# Altium schematic symbol library SIM_Sockets.SCHLIB: 15 symbols
Pins are listed as number, name and electrical type; pins without a type are passive.

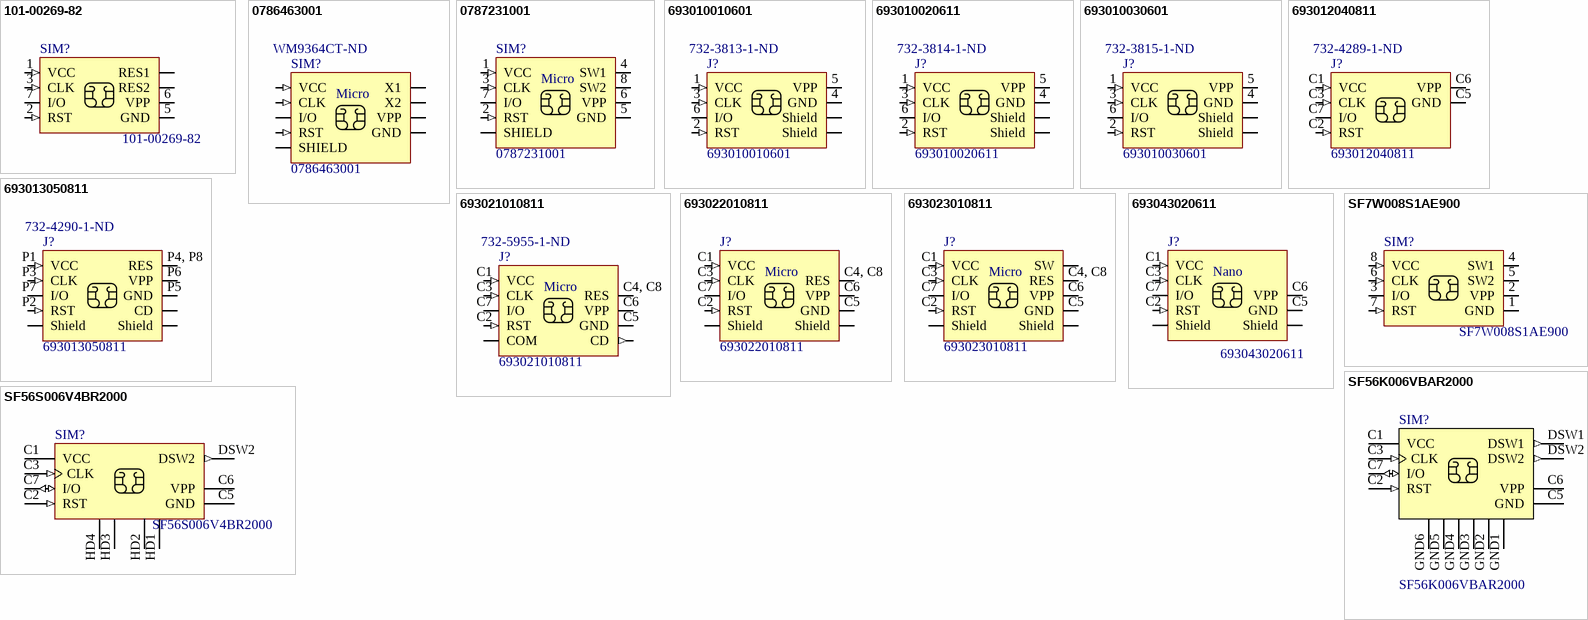
[diagram p0: symbols 101-00269-82 to SF56S006V4BR2000]

## 101-00269-82
designator SIM?
CONN SIM CARD PUSH-PUSH R/A SMD; Manuf1: Amphenol Commercial Products; Populated: Yes; Value: 101-00269-82; Manuf1Partnumber: 101-00269-82; ROHS: Yes; LifeCycle: Checked; Supplier 1: Digi-Key; Supplier Part Number 1: 101-00269-82-1-ND
footprint 101-00269-82
pins: 1 VCC (in), 2 RST (in), 3 CLK (in), 5 GND (power), 6 VPP, 7 I/O (io), RES1, RES2

## 0786463001
designator SIM?  Supplier Part Number 1: WM9364CT-ND
CONN MICRO SIM CARD PUSH-PULL; Manufacturer: Molex, LLC; Manuf1: Molex LCC; Number of Positions: 6; Insertion, Removal Method: Push In, Pull Out; Populated: Yes; Manufacturer Part Number: 0786463001; RoHS: Yes; Packaging: Cut Tape (CT); Card Type: Micro SIM; Mounting Type: Surface Mount, Right Angle; Height Above Board: 0.057" (1.45mm); Mounting Feature: Normal, Standard - Top; Contact Finish: Gold; Contact Finish Thickness: 15µin (0.38µm); ComponentLink1URL: http://www.molex.com/pdm_docs/sd/786463001_sd.pdf; ComponentLink1Description: http://www.molex.com/pdm_docs/sd/786463001_sd.pdf; Value: 0786463001; LifeCycle: Checked; Manuf1Partnumber: 0786463001; Supplier 1: Digi-Key
footprint 0786463001 (Conn Micro SIM Card SKT 6 POS 2.54mm Solder RA SMD Embossed T/R 0.5A/Contact)
pins: C1 VCC (in), C2 RST (in), C3 CLK (in), C5 GND (power), C6 VPP, C7 I/O (io), GND SHIELD, X1, X2
text: Micro

## 0787231001
designator SIM?
CONN MICRO SIM CARD PUSH-PULL; Manuf1: Molex LCC; Populated: Yes; Manuf1Partnumber: 0787231001; Value: 0787231001; ROHS: Yes; LifeCycle: Checked; Supplier 1: Digi-Key; Supplier Part Number 1: WM9259CT-ND
footprint 0787231001
pins: 1 VCC (in), 2 RST (in), 3 CLK (in), 4 SW1, 5 GND (power), 6 VPP, 7 I/O (io), 8 SW2, GND SHIELD
text: Micro

## 693010010601
designator J?  Supplier Part Number 1: 732-3813-1-ND
WR-CRD Mini SIM_Standard Header; Manufacturer: Würth Elektronik eiSos GmbH; ComponentLink1 Description: Manufacturer; ComponentLink2 Description: Datasheet; NoPins: 6; Populated: Yes; ComponentLink1URL: http://www.we-online.de; ComponentLink2URL: http://katalog.we-online.de/em/datasheet/693010010601.pdf; partNo: 693010010601; LifeCycle: Checked; Manuf1: Würth Elektronik eiSos GmbH; Manuf1Partnumber: 693010010601; RoHS: Yes; Value: 693010010601; Supplier 1: Digi-Key
footprint 693010010601
pins: 1 VCC (in), 2 RST (in), 3 CLK (in), 4 GND, 5 VPP, 6 I/O (io), Z1 Shield, Z2 Shield

## 693010020611
designator J?  Supplier Part Number 1: 732-3814-1-ND
WR-CRD Mini SIM; Manufacturer: Würth Elektronik eiSos GmbH; ComponentLink1 Description: Manufacturer; ComponentLink2 Description: Datasheet; NoPins: 6; Populated: Yes; ComponentLink1URL: http://www.we-online.de; ComponentLink2URL: http://katalog.we-online.de/em/datasheet/693010020611.pdf; partNo: 693010020611; LifeCycle: Checked; Manuf1: Würth Elektronik eiSos GmbH; Manuf1Partnumber: 693010020611; RoHS: Yes; Value: 693010020611; Supplier 1: Digi-Key
footprint 693010020611
pins: 1 VCC (in), 2 RST (in), 3 CLK (in), 4 GND, 5 VPP, 6 I/O (io), Z1 Shield, Z2 Shield

## 693010030601
designator J?  Supplier Part Number 1: 732-3815-1-ND
WR-CRD Mini SIM; Manufacturer: Würth Elektronik eiSos GmbH; ComponentLink1 Description: Manufacturer; ComponentLink2 Description: Datasheet; NoPins: 6; Populated: Yes; ComponentLink1URL: http://www.we-online.de; ComponentLink2URL: http://katalog.we-online.de/em/datasheet/693010030601.pdf; partNo: 693010030601; LifeCycle: Checked; Manuf1: Würth Elektronik eiSos GmbH; Manuf1Partnumber: 693010030601; RoHS: Yes; Value: 693010030601; Supplier 1: Digi-Key
footprint 693010030601
pins: 1 VCC (in), 2 RST (in), 3 CLK (in), 4 GND, 5 VPP, 6 I/O (io), Z1 Shield, Z2 Shield

## 693012040811
designator J?  Supplier Part Number 1: 732-4289-1-ND
WR-CRD mini SIM_Hinge type_6 pins; Manufacturer: Würth Elektronik eiSos GmbH; ComponentLink1 Description: Manufacturer; ComponentLink2 Description: Datasheet; NoPins: 6; Populated: Yes; ComponentLink1URL: http://www.we-online.de; ComponentLink2URL: http://katalog.we-online.de/em/datasheet/693012040811.pdf; partNo: 693012040811; LifeCycle: Checked; Manuf1: Würth Elektronik eiSos GmbH; Manuf1Partnumber: 693012040811; RoHS: Yes; Value: 693012040811; Supplier 1: Digi-Key
footprint 693012040811
pins: C1 VCC (in), C2 RST (in), C3 CLK (in), C5 GND, C6 VPP, C7 I/O (io)

## 693013050811
designator J?  Supplier Part Number 1: 732-4290-1-ND
WR-CRD Mega SIM_Push and Push_8 pins; Manufacturer: Würth Elektronik eiSos GmbH; ComponentLink1 Description: Manufacturer; ComponentLink2 Description: Datasheet; NoPins: 9; Populated: Yes; ComponentLink1URL: http://www.we-online.de; ComponentLink2URL: http://katalog.we-online.de/em/datasheet/693013050811.pdf; partNo: 693013050811; LifeCycle: Checked; Manuf1: Würth Elektronik eiSos GmbH; Manuf1Partnumber: 693013050811; RoHS: Yes; Value: 693013050811; Supplier 1: Digi-Key
footprint 693013050811
pins: CD, P1 VCC (in), P2 RST (in), P3 CLK (in), P4, P8 RES, P5 GND, P6 VPP, P7 I/O (io), Z1 Shield, Z2 Shield

## 693021010811
designator J?  Supplier Part Number 1: 732-5955-1-ND
WR-CRD Micro SIM_Push and Push_8 pins; Manufacturer: Würth Elektronik eiSos GmbH; ComponentLink1 Description: Manufacturer; ComponentLink2 Description: Datasheet; NoPins: 10; Populated: Yes; ComponentLink1URL: http://www.we-online.de; ComponentLink2URL: http://katalog.we-online.de/em/datasheet/693021010811.pdf; partNo: 693021010811; LifeCycle: Checked; Manuf1: Würth Elektronik eiSos GmbH; Manuf1Partnumber: 693021010811; RoHS: Yes; Value: 693021010811; Supplier 1: Digi-Key
footprint 693021010811
pins: C1 VCC (in), C2 RST (in), C3 CLK (in), C4, C8 RES, C5 GND, C6 VPP, C7 I/O (io), CD (out), COM
text: Micro

## 693022010811
designator J?
WR-CRD Micro SIM_Hinge_8 pins; Manufacturer: Würth Elektronik eiSos GmbH; ComponentLink1 Description: Manufacturer; ComponentLink2 Description: Datasheet; NoPins: 8; Populated: Yes; ComponentLink1URL: http://www.we-online.de; ComponentLink2URL: http://katalog.we-online.de/em/datasheet/693022010811.pdf; partNo: 693022010811; LifeCycle: Checked; Manuf1: Würth Elektronik eiSos GmbH; Manuf1Partnumber: 693022010811; RoHS: Yes; Value: 693022010811; Supplier 1: Digi-Key; Supplier Part Number 1: 732-5957-1-ND
footprint 693022010811
pins: C1 VCC (in), C2 RST (in), C3 CLK (in), C4, C8 RES, C5 GND, C6 VPP, C7 I/O (io), Z1 Shield, Z2 Shield
text: Micro

## 693023010811
designator J?
WR-CRD Micro SIM_Push and Pull_8 pins; Manufacturer: Würth Elektronik eiSos GmbH; ComponentLink1 Description: Manufacturer; ComponentLink2 Description: Datasheet; NoPins: 9; Populated: Yes; ComponentLink1URL: http://www.we-online.de; ComponentLink2URL: http://katalog.we-online.de/em/datasheet/693023010811.pdf; partNo: 693023010811; LifeCycle: Checked; Manuf1: Würth Elektronik eiSos GmbH; Manuf1Partnumber: 693023010811; RoHS: Yes; Value: 693023010811; Supplier 1: Digi-Key; Supplier Part Number 1: 732-5956-1-ND
footprint 693023010811
pins: C1 VCC (in), C2 RST (in), C3 CLK (in), C4, C8 RES, C5 GND, C6 VPP, C7 I/O (io), SW, Z1 Shield, Z2 Shield
text: Micro

## 693043020611
designator J?
WR-CRD Nano SIM_Push and Pull_6 pins; Manufacturer: Würth Elektronik eiSos GmbH; ComponentLink1 Description: Manufacturer; ComponentLink2 Description: Datasheet; NoPins: 6; Populated: Yes; ComponentLink1URL: http://www.we-online.de; ComponentLink2URL: http://katalog.we-online.de/em/datasheet/693043020611.pdf; partNo: 693043020611; LifeCycle: Checked; Manuf1: Würth Elektronik eiSos GmbH; Manuf1Partnumber: 693043020611; RoHS: Yes; Value: 693043020611; Supplier 1: Digi-Key; Supplier Part Number 1: 732-5954-1-ND
footprint 693043020611
pins: C1 VCC (in), C2 RST (in), C3 CLK (in), C5 GND, C6 VPP, C7 I/O (io), Z1 Shield, Z2 Shield
text: Nano

## SF7W008S1AE900
designator SIM?
CONN SIM CARD HINGED TYPE R/A; Manuf1: JAE Electronics; Populated: Yes; Value: SF7W008S1AE900; Manuf1Partnumber: SF7W008S1AE900; ROHS: Yes; LifeCycle: Checked; Supplier 1: Digi-Key; Supplier Part Number 1: 670-2337-1-ND
footprint SF7W008S1AE900
pins: 1 GND, 2 VPP, 3 I/O (io), 4 SW1, 5 SW2, 6 CLK (in), 7 RST (in), 8 VCC (in)

## SF56K006VBAR2000
designator SIM?
Micro Sim Card Conn Push-push Type; Manufacturer: JAE Electronics; Connector Type: Connector; Frequency: 32MHz; Frequency Stability: 10ppm; Load Capacitance: 7pF; ESR (Equivalent Series Resistance): 50R; Supplier 1: Digi-Key; Manufacturer Part Number: SF56K006VBAR2000; RoHS: No; Category: Memory Connectors; Stock 1: 15244; Pricing 1: 1=1,30000, 10=1,10200, 25=1,05720, 50=1,03460, 100=0,98960, 250=0,89964, 500=0,80968, 1000=0,71971 (USD); Mount: Surface Mount; Case/Package: SMD/SMT; Contact Plating: Gold; Min Operating Temperature: -20°C; Max Operating Temperature: 70°C; Packaging: Tape and Reel; Frequency Tolerance: 10ppm; ComponentLink1URL: http://www.jae.com/z-en/pdf_download_exec.cfm?param=MB-0322-1E_SF56K.pdf&src-supplier=Digi-Key; ComponentLink1Description: http://www.jae.com/z-en/pdf_download_exec.cfm?param=MB-0322-1E_SF56K.pdf&src-supplier=Digi-Key; ComponentLink2URL: http://www.jae.com/z-en/pdf_download_exec.cfm?param=SJ116250.pdf&src-supplier=Digi-Key; ComponentLink2Description: http://www.jae.com/z-en/pdf_download_exec.cfm?param=SJ116250.pdf&src-supplier=Digi-Key; Supplier Part Number 1: 670-2981-1-ND
footprint JAE_SF56K006VBAR2000
pins: C1 VCC (power), C2 RST (in), C3 CLK (in), C5 GND (power), C6 VPP (power), C7 I/O (io), DSW1 (out), DSW2 (out), GND1 SHIELD (power), GND2 SHIELD (power), GND3 SHIELD (power), GND4 SHIELD (power), GND5 SHIELD (power), GND6 SHIELD (power)

## SF56S006V4BR2000
designator SIM?
8 (6 + 2) Position Card Connector Micro SIM Surface Mount, Right Angle Gold; Manufacturer: JAE Electronics; Supplier 1: Digi-Key; Manufacturer Part Number: SF56S006V4BR2000; Stock 1: 38126; Pricing 1: 1=1.3, 10=1.144, 25=1.0772, 50=1.0322, 100=0.9874, 250=0.8976, 500=0.80784, 1000=0.71808 (USD); Mount: Surface Mount; Contact Plating: Gold; Packaging: Tape and Reel; Connector Type: Connector; Value: SF56S006V4BR2000; Supplier Part Number 1: 670-2834-1-ND
footprint JAE_SF56S006V4BR2000_SF56S006V4BR2000(Primary)
pins: C1 VCC (power), C2 RST (in), C3 CLK (in), C5 GND (power), C6 VPP (power), C7 I/O (io), DSW2 (out), HD1 SHIELD (power), HD2 SHIELD (power), HD3 SHIELD (power), HD4 SHIELD (power)